# Altium schematic symbol library FCAM_CSI_FMC.SchLib: 5 symbols
Pins are listed as number, name and electrical type; pins without a type are passive.

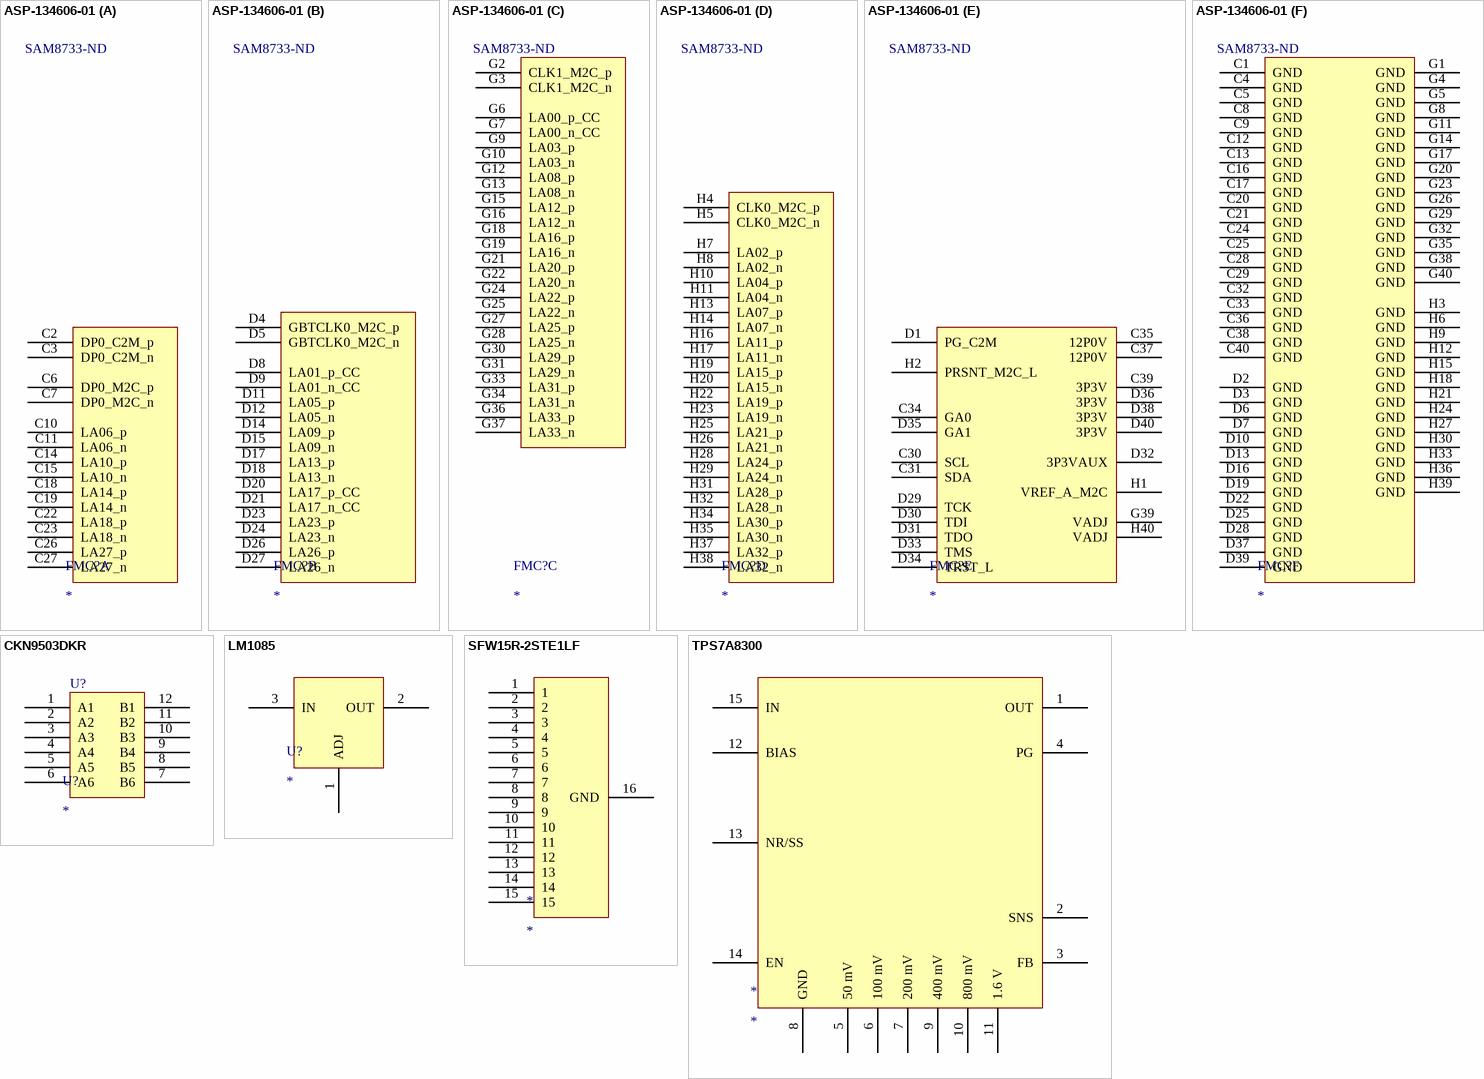
[diagram p0: symbols ASP-134606-01 to TPS7A8300]

## ASP-134606-01
designator FMC?  Supplier Part Number 1: SAM8733-ND
Manufacturer: Samtec; Manufacturer Part Number: ASP-134606-01; Number of Positions: 160; Gender: Male; Pitch: 0.05inch; Supplier 1: Digi-Key; Stock 1: 663; Pricing 1: 1=12.89, 10=12.456, 25=12.026, 50=11.5966, 100=11.167, 250=10.95224, 500=10.7375 (USD); Mount: Surface Mount; Contact Plating: Gold; Contact Material: Copper Alloy; Number of Rows: 4; Packaging: Tape and Reel; Number of Contacts: 160; Termination: SMD/SMT; Package Quantity: 1; Radiation Hardening: No; REACH SVHC: No SVHC; ComponentLink1URL: http://www.farnell.com/cad/1838623.pdf; ComponentLink1Description: http://www.farnell.com/cad/1838623.pdf; ComponentLink2URL: http://suddendocs.samtec.com/prints/asp-134606-01.pdf; ComponentLink2Description: http://suddendocs.samtec.com/prints/asp-134606-01.pdf
footprint ASP-134606-01
part A pins: C2 DP0_C2M_p, C3 DP0_C2M_n, C6 DP0_M2C_p, C7 DP0_M2C_n, C10 LA06_p, C11 LA06_n, C14 LA10_p, C15 LA10_n, C18 LA14_p, C19 LA14_n, C22 LA18_p, C23 LA18_n, C26 LA27_p, C27 LA27_n
part B pins: D4 GBTCLK0_M2C_p, D5 GBTCLK0_M2C_n, D8 LA01_p_CC, D9 LA01_n_CC, D11 LA05_p, D12 LA05_n, D14 LA09_p, D15 LA09_n, D17 LA13_p, D18 LA13_n, D20 LA17_p_CC, D21 LA17_n_CC, D23 LA23_p, D24 LA23_n, D26 LA26_p, D27 LA26_n
part C pins: G2 CLK1_M2C_p, G3 CLK1_M2C_n, G6 LA00_p_CC, G7 LA00_n_CC, G9 LA03_p, G10 LA03_n, G12 LA08_p, G13 LA08_n, G15 LA12_p, G16 LA12_n, G18 LA16_p, G19 LA16_n, G21 LA20_p, G22 LA20_n, G24 LA22_p, G25 LA22_n, G27 LA25_p, G28 LA25_n, G30 LA29_p, G31 LA29_n, G33 LA31_p, G34 LA31_n, G36 LA33_p, G37 LA33_n
part D pins: H4 CLK0_M2C_p, H5 CLK0_M2C_n, H7 LA02_p, H8 LA02_n, H10 LA04_p, H11 LA04_n, H13 LA07_p, H14 LA07_n, H16 LA11_p, H17 LA11_n, H19 LA15_p, H20 LA15_n, H22 LA19_p, H23 LA19_n, H25 LA21_p, H26 LA21_n, H28 LA24_p, H29 LA24_n, H31 LA28_p, H32 LA28_n, H34 LA30_p, H35 LA30_n, H37 LA32_p, H38 LA32_n
part E pins: C30 SCL, C31 SDA, C34 GA0, C35 12P0V, C37 12P0V, C39 3P3V, D1 PG_C2M, D29 TCK, D30 TDI, D31 TDO, D32 3P3VAUX, D33 TMS, D34 TRST_L, D35 GA1, D36 3P3V, D38 3P3V, D40 3P3V, G39 VADJ, H1 VREF_A_M2C, H2 PRSNT_M2C_L, H40 VADJ
part F pins: C1 GND, C4 GND, C5 GND, C8 GND, C9 GND, C12 GND, C13 GND, C16 GND, C17 GND, C20 GND, C21 GND, C24 GND, C25 GND, C28 GND, C29 GND, C32 GND, C33 GND, C36 GND, C38 GND, C40 GND, D2 GND, D3 GND, D6 GND, D7 GND, D10 GND, D13 GND, D16 GND, D19 GND, D22 GND, D25 GND, D28 GND, D37 GND, D39 GND, G1 GND, G4 GND, G5 GND, G8 GND, G11 GND, G14 GND, G17 GND, G20 GND, G23 GND, G26 GND, G29 GND, G32 GND, G35 GND, G38 GND, G40 GND, H3 GND, H6 GND, H9 GND, H12 GND, H15 GND, H18 GND, H21 GND, H24 GND, H27 GND, H30 GND, H33 GND, H36 GND, H39 GND

## CKN9503DKR
designator U?
footprint SOIC127P1030X265-12N (SOIC, 12-Leads, Body 8.89x6.35mm, Pitch 1.27mm, IPC Medium Density)
pins: 1 A1, 2 A2, 3 A3, 4 A4, 5 A5, 6 A6, 7 B6, 8 B5, 9 B4, 10 B3, 11 B2, 12 B1

## LM1085
designator U?
footprint DPAK228P1435X457-4N (D2-PAK, 4-Pads, Body 7.42x8.44mm (max), IPC Medium Density)
pins: 1 ADJ, 2 OUT, 3 IN

## SFW15R-2STE1LF
designator *
footprint SFW15R-2STE1LF
pins: 1, 2, 3, 4, 5, 6, 7, 8, 9, 10, 11, 12, 13, 14, 15, 16 GND

## TPS7A8300
designator *
footprint QFN65P500X500X80 (QFN, 20-Leads, Body 5.00x5.00mm, Pitch 0.65mm, Thermal Pad 3.15x3.15mm, IPC Medium Density)
pins: 1 OUT, 2 SNS, 3 FB, 4 PG, 5 50 mV, 6 100 mV, 7 200 mV, 8 GND, 9 400 mV, 10 800 mV, 11 1.6 V, 12 BIAS, 13 NR/SS, 14 EN, 15 IN